# EAGLE library part SX1280_2.4GHZ (library SobieskiSat2)
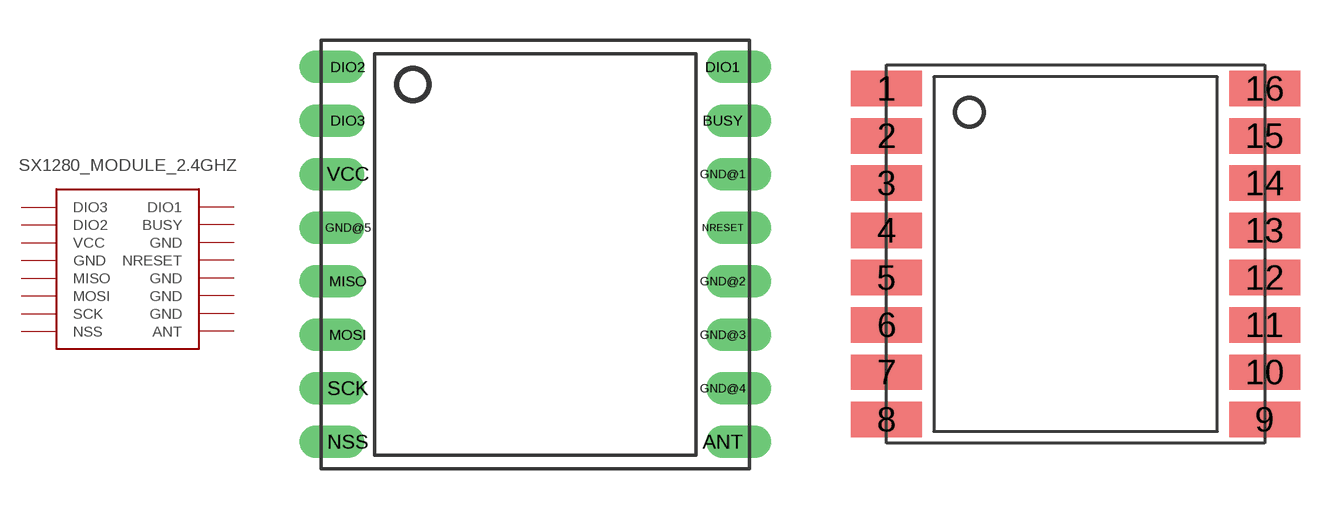
[diagram p13: symbol with the pads of MODULE_SX1280_THT; footprints MODULE_SX1280_THT, MODULE_SX1280]

Designator prefix -

## SX1280_2.4GHZ  [MODULE_SX1280_THT]
ANT  BUSY
BUSY  ANT
DIO1  DIO1
DIO2  DIO2
DIO3  DIO3
GND@1  GND
GND@2  GND
GND@3  GND
GND@4  GND
GND@5  GND
MISO  MISO
MOSI  MOSI
NRESET  NRESET
NSS  NSS
SCK  SCK
VCC  VCC

## SX1280_2.4GHZ"  [MODULE_SX1280]
1  ANT
2  BUSY
3  DIO1
4  DIO2
5  DIO3
6  GND
7  GND
8  GND
9  GND
10  GND
11  MISO
12  MOSI
13  NRESET
14  NSS
15  SCK
16  VCC

## Footprint MODULE_SX1280_THT (pad centres in mm)
drill 0.7 offset: ANT 7,-7; BUSY 7,5; DIO1 7,7; DIO2 -7,7; DIO3 -7,5; GND@1 7,3; GND@2 7,-1; GND@3 7,-3; GND@4 7,-5; GND@5 -7,1; MISO -7,-1; MOSI -7,-3; NRESET 7,1; NSS -7,-7; SCK -7,-5; VCC -7,3

## Footprint MODULE_SX1280 (pad centres in mm)
smd 3 x 1.5: 1 -8,7; 2 -8,5; 3 -8,3; 4 -8,1; 5 -8,-1; 6 -8,-3; 7 -8,-5; 8 -8,-7; 9 8,-7; 10 8,-5; 11 8,-3; 12 8,-1; 13 8,1; 14 8,3; 15 8,5; 16 8,7